# EAGLE library part ADA4522-2 (library magmeter)
Dual Zero-Drift, Rail-to-Rail Op-Amp
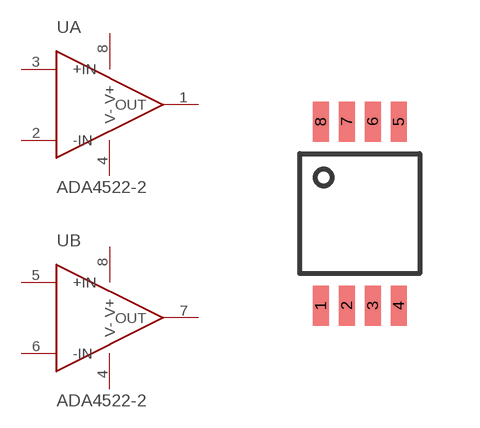
[diagram p2: symbol with the pads of MSOP8; footprint MSOP8]

Designator prefix U; gates A=ADA4522-2 B=ADA4522-2

## ADA4522-2 (MANUFACTURER: Analog Devices; MPN: ADA4522-2ARMZ)  [MSOP8]
1  A:OUT  out
2  A:-IN
3  A:+IN
4  A:V-  pwr
4  B:V-  pwr
5  B:+IN
6  B:-IN
7  B:OUT  out
8  A:V+  pwr
8  B:V+  pwr

## Footprint MSOP8 (pad centres in mm)
MSOP-8, 3mm x 3mm body, 0.65mm pitch
smd 0.4 x 1: 1 -0.975,-2.3; 2 -0.325,-2.3; 3 0.325,-2.3; 4 0.975,-2.3; 5 0.975,2.3; 6 0.325,2.3; 7 -0.325,2.3; 8 -0.975,2.3